# EAGLE library part LMR14010ADDCR (library edrtech_lib)
Switching Voltage Regulators 4-V to 40-V, 1-A Step-Down Converter With High Efficiency Eco-Mode 6-SOT-23-THIN -40 to 125 Source: Datasheet <http://www.ti.com/lit/gpn/lmr14010a>
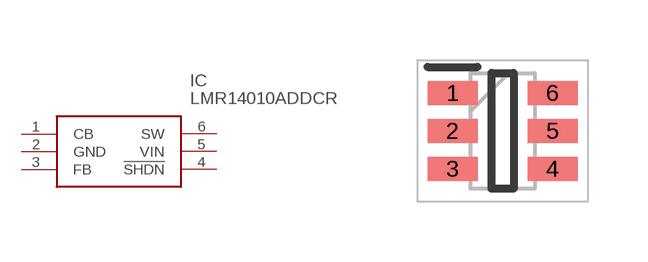
[diagram p61: symbol with the pads of SOT95P280X110-6N; footprint SOT95P280X110-6N]

Designator prefix IC

## LMR14010ADDCR (ARROW_PART_NUMBER: LMR14010ADDCR; ARROW_PRICE-STOCK: https://www.arrow.com/en/products/lmr14010addcr/texas-instruments?region=nac; DESCRIPTION: Switching Voltage Regulators 4-V to 40-V, 1-A Step-Down Converter With High Efficiency Eco-Mode 6-SOT-23-THIN -40 to 125; HEIGHT: 1.1mm; MANUFACTURER_NAME: Texas Instruments; MANUFACTURER_PART_NUMBER: LMR14010ADDCR)  [SOT95P280X110-6N]
1  CB
2  GND
3  FB
4  !SHDN
5  VIN
6  SW

## Footprint SOT95P280X110-6N (pad centres in mm)
6-Pin Thin SOT23
smd 1.25 x 0.6: 1 -1.25,0.95; 2 -1.25,0; 3 -1.25,-0.95; 4 1.25,-0.95; 5 1.25,0; 6 1.25,0.95